# EAGLE library part USHOST-ICSP (library IBe-9102-lib)
Arduino Diecimila/Duemilanove Make a shield with ease, this package has all the named pins as well as the two mounting drill holes and an outline of the USB and DC power connector. The outline is on the DIMENSION layer, so if your board house uses it they will cut the outline to match. http://www.ladyada.net/library/pcb/eaglelibrary.html
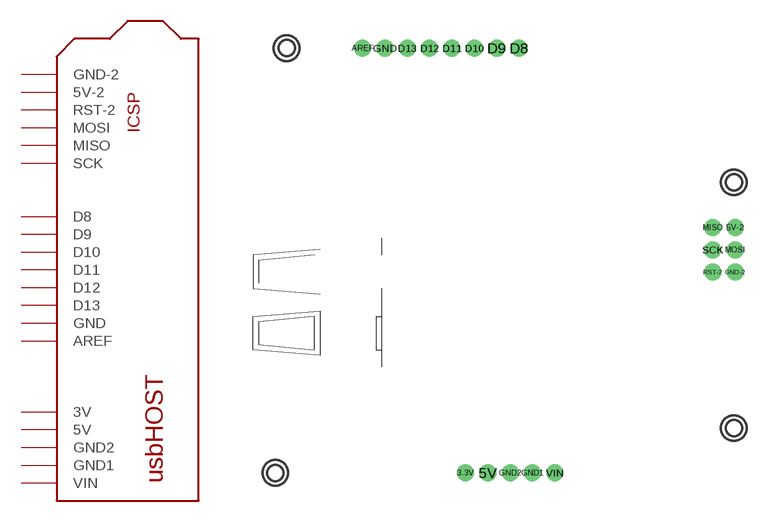
[diagram p4: symbol with the pads of USB-HOST-ICSP; footprint USB-HOST-ICSP]

Designator prefix -

## USHOST-ICSP  [USB-HOST-ICSP]
3.3V  3V  pwr
5V  5V  pwr
5V-2  5V-2
AREF  AREF
D8  D8
D9  D9
D10  D10
D11  D11
D12  D12
D13  D13
GND  GND  pwr
GND1  GND1  pwr
GND2  GND2  pwr
GND-2  GND-2
MISO  MISO
MOSI  MOSI
RST-2  RST-2
SCK  SCK
VIN  VIN  pwr

## Footprint USB-HOST-ICSP (pad centres in mm)
Arduino Uno R3 Footprint Includes mounting holes, and holes for ICSP header Specifications: Pin count: 38 Area:2.7x2.1in Datasheet referenced for footprint: Example device(s): Arduino Uno R3
drill 1.016 pad 1.93: 3.3V 2.54,-24.13; 5V 5.08,-24.13; 5V-2 33.16,3.76; AREF -9.144,24.13; D8 8.636,24.13; D9 6.096,24.13; D10 3.556,24.13; D11 1.016,24.13; D12 -1.524,24.13; D13 -4.064,24.13; GND -6.604,24.13; GND1 10.16,-24.13; GND2 7.62,-24.13; GND-2 33.16,-1.32; MISO 30.62,3.76; MOSI 33.16,1.22; RST-2 30.62,-1.32; SCK 30.62,1.22; VIN 12.7,-24.13